# Altium schematic symbol library SCH - PASSIVES - PHOTORESISTOR.SCHLIB: 1 symbol
Pins are listed as number, name and electrical type; pins without a type are passive.

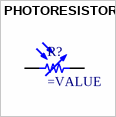
[diagram p0: symbol PHOTORESISTOR]

## PHOTORESISTOR
designator R?
SMT Resistor
pins: 1, 2